# Altium schematic symbol library Transformers.SchLib: 6 symbols
Pins are listed as number, name and electrical type; pins without a type are passive.

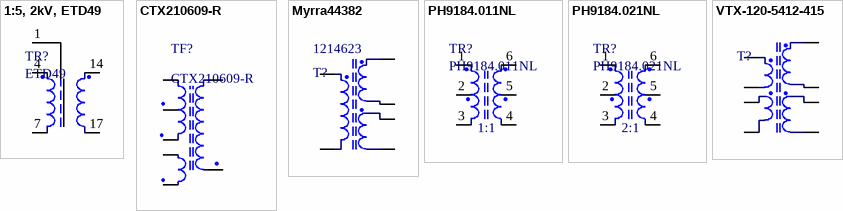
[diagram p0: symbols 1:5, 2kV, ETD49 to VTX-120-5412-415]

## 1:5, 2kV, ETD49
designator TR?, comment ETD49
Custom transformer, ETD49 core
footprint B66368B1020T001 (ETD 49/25/16 Coil Former)
pins: 1, 4, 7, 14, 17

## CTX210609-R
designator TF?
Royer Transformer Type C; Supplier 1: Farnell; Supplier Part Number 1: 2075582
footprint CTX210609-R (Royer Transformer Type C)
pins: 1, 2, 3, 4, 5, 6, 10

## Myrra44382
designator T?  Supplier Part Number 1: 1214623  (hidden comment: *)
Supplier 1: Farnell
footprint Myrra44382 (240-12Vtransformer)
pins: 1 0v, 2, 3, 4, 5, 6

## PH9184.011NL
designator TR?
High Isolation Power Transformers; Supplier 1: Mouser; Supplier Part Number 1: 673-PH9184.011NLT
footprint PH9184 (High Isolation Power Transformers)
pins: 1, 2, 3, 4, 5, 6
text: 1:1

## PH9184.021NL
designator TR?
High Isolation Power Transformers; Supplier 1: Mouser; Supplier Part Number 1: 673-PH9184.021NLT
footprint PH9184 (High Isolation Power Transformers)
pins: 1, 2, 3, 4, 5, 6
text: 2:1

## VTX-120-5412-415
designator T?  (value not drawn)
Supplier 1: Farnell; Supplier Part Number 1: 1712723
footprint VTX-120-5412-415 (0,15,0,15)
pins: 1 0v, 2 Vpri, 3, 4, 5, 6, 7, 8